# EAGLE library part ICE40HX1K (library iCE40HX-1k)
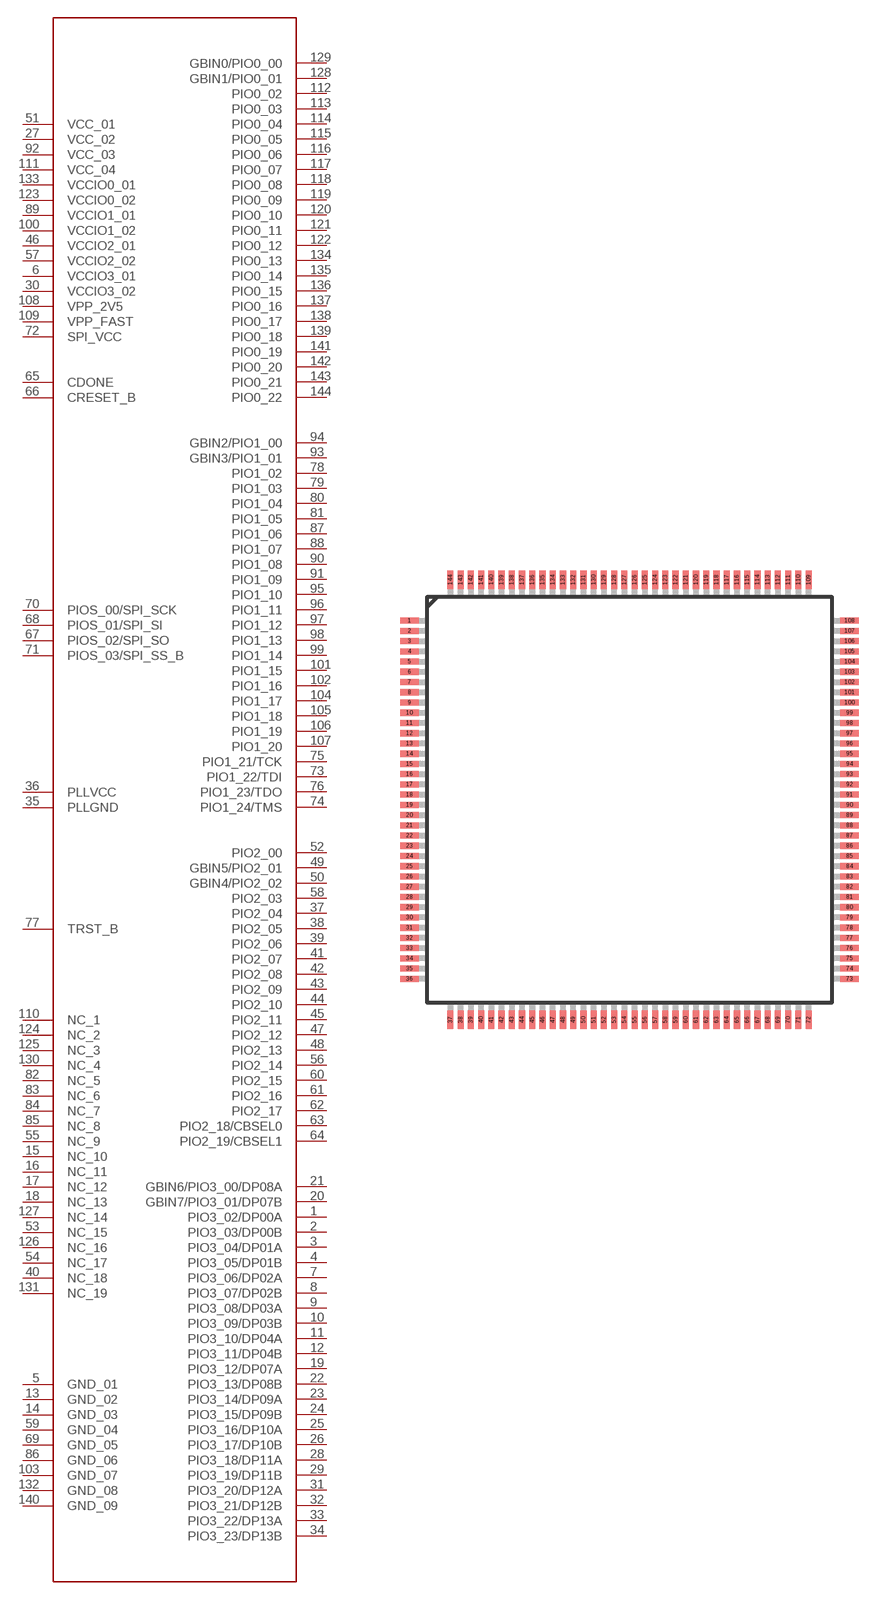
[diagram p0: symbol with the pads of TQFP144; footprint TQFP144]

Designator prefix -

## ICE40HX1K  [TQFP144]
1  PIO3_02/DP00A
2  PIO3_03/DP00B
3  PIO3_04/DP01A
4  PIO3_05/DP01B
5  GND_01  pwr
6  VCCIO3_01  pwr
7  PIO3_06/DP02A
8  PIO3_07/DP02B
9  PIO3_08/DP03A
10  PIO3_09/DP03B
11  PIO3_10/DP04A
12  PIO3_11/DP04B
13  GND_02  pwr
14  GND_03  pwr
15  NC_10  nc
16  NC_11  nc
17  NC_12  nc
18  NC_13  nc
19  PIO3_12/DP07A
20  GBIN7/PIO3_01/DP07B
21  GBIN6/PIO3_00/DP08A
22  PIO3_13/DP08B
23  PIO3_14/DP09A
24  PIO3_15/DP09B
25  PIO3_16/DP10A
26  PIO3_17/DP10B
27  VCC_02  pwr
28  PIO3_18/DP11A
29  PIO3_19/DP11B
30  VCCIO3_02  pwr
31  PIO3_20/DP12A
32  PIO3_21/DP12B
33  PIO3_22/DP13A
34  PIO3_23/DP13B
35  PLLGND  pwr
36  PLLVCC  pwr
37  PIO2_04
38  PIO2_05
39  PIO2_06
40  NC_18  nc
41  PIO2_07
42  PIO2_08
43  PIO2_09
44  PIO2_10
45  PIO2_11
46  VCCIO2_01  pwr
47  PIO2_12
48  PIO2_13
49  GBIN5/PIO2_01
50  GBIN4/PIO2_02
51  VCC_01  pwr
52  PIO2_00
53  NC_15  nc
54  NC_17  nc
55  NC_9  nc
56  PIO2_14
57  VCCIO2_02  pwr
58  PIO2_03
59  GND_04  pwr
60  PIO2_15
61  PIO2_16
62  PIO2_17
63  PIO2_18/CBSEL0
64  PIO2_19/CBSEL1
65  CDONE  out
66  CRESET_B  in
67  PIOS_02/SPI_SO
68  PIOS_01/SPI_SI
69  GND_05  pwr
70  PIOS_00/SPI_SCK
71  PIOS_03/SPI_SS_B
72  SPI_VCC
73  PIO1_22/TDI
74  PIO1_24/TMS
75  PIO1_21/TCK
76  PIO1_23/TDO
77  TRST_B  pas
78  PIO1_02
79  PIO1_03
80  PIO1_04
81  PIO1_05
82  NC_5  nc
83  NC_6  nc
84  NC_7  nc
85  NC_8  nc
86  GND_06  pwr
87  PIO1_06
88  PIO1_07
89  VCCIO1_01  pwr
90  PIO1_08
91  PIO1_09
92  VCC_03  pwr
93  GBIN3/PIO1_01
94  GBIN2/PIO1_00
95  PIO1_10
96  PIO1_11
97  PIO1_12
98  PIO1_13
99  PIO1_14
100  VCCIO1_02  pwr
101  PIO1_15
102  PIO1_16
103  GND_07  pwr
104  PIO1_17
105  PIO1_18
106  PIO1_19
107  PIO1_20
108  VPP_2V5  pwr
109  VPP_FAST  pwr
110  NC_1  nc
111  VCC_04  pwr
112  PIO0_02
113  PIO0_03
114  PIO0_04
115  PIO0_05
116  PIO0_06
117  PIO0_07
118  PIO0_08
119  PIO0_09
120  PIO0_10
121  PIO0_11
122  PIO0_12
123  VCCIO0_02  pwr
124  NC_2  nc
125  NC_3  nc
126  NC_16  nc
127  NC_14  nc
128  GBIN1/PIO0_01
129  GBIN0/PIO0_00
130  NC_4  nc
131  NC_19  nc
132  GND_08  pwr
133  VCCIO0_01  pwr
134  PIO0_13
135  PIO0_14
136  PIO0_15
137  PIO0_16
138  PIO0_17
139  PIO0_18
140  GND_09  pwr
141  PIO0_19
142  PIO0_20
143  PIO0_21
144  PIO0_22

## Footprint TQFP144 (pad centres in mm)
TQFP 144 Auto generated by make-symbol-device-package-bsdl.ulp Rev. 20 Source: http://www.latticesemi.com/lit/docs/package/pkg.pdf
smd 0.9 x 0.3: 1 -10.75,8.75; 2 -10.75,8.25; 3 -10.75,7.75; 4 -10.75,7.25; 5 -10.75,6.75; 6 -10.75,6.25; 7 -10.75,5.75; 8 -10.75,5.25; 9 -10.75,4.75; 10 -10.75,4.25; 11 -10.75,3.75; 12 -10.75,3.25; 13 -10.75,2.75; 14 -10.75,2.25; 15 -10.75,1.75; 16 -10.75,1.25; 17 -10.75,0.75; 18 -10.75,0.25; 19 -10.75,-0.25; 20 -10.75,-0.75; 21 -10.75,-1.25; 22 -10.75,-1.75; 23 -10.75,-2.25; 24 -10.75,-2.75; 25 -10.75,-3.25; 26 -10.75,-3.75; 27 -10.75,-4.25; 28 -10.75,-4.75; 29 -10.75,-5.25; 30 -10.75,-5.75; 31 -10.75,-6.25; 32 -10.75,-6.75; 33 -10.75,-7.25; 34 -10.75,-7.75; 35 -10.75,-8.25; 36 -10.75,-8.75; 73 10.75,-8.75; 74 10.75,-8.25; 75 10.75,-7.75; 76 10.75,-7.25; 77 10.75,-6.75; 78 10.75,-6.25; 79 10.75,-5.75; 80 10.75,-5.25; 81 10.75,-4.75; 82 10.75,-4.25; 83 10.75,-3.75; 84 10.75,-3.25; 85 10.75,-2.75; 86 10.75,-2.25; 87 10.75,-1.75; 88 10.75,-1.25; 89 10.75,-0.75; 90 10.75,-0.25; 91 10.75,0.25; 92 10.75,0.75; 93 10.75,1.25; 94 10.75,1.75; 95 10.75,2.25; 96 10.75,2.75; 97 10.75,3.25; 98 10.75,3.75; 99 10.75,4.25; 100 10.75,4.75; 101 10.75,5.25; 102 10.75,5.75; 103 10.75,6.25; 104 10.75,6.75; 105 10.75,7.25; 106 10.75,7.75; 107 10.75,8.25; 108 10.75,8.75
smd 0.3 x 0.9: 37 -8.75,-10.75; 38 -8.25,-10.75; 39 -7.75,-10.75; 40 -7.25,-10.75; 41 -6.75,-10.75; 42 -6.25,-10.75; 43 -5.75,-10.75; 44 -5.25,-10.75; 45 -4.75,-10.75; 46 -4.25,-10.75; 47 -3.75,-10.75; 48 -3.25,-10.75; 49 -2.75,-10.75; 50 -2.25,-10.75; 51 -1.75,-10.75; 52 -1.25,-10.75; 53 -0.75,-10.75; 54 -0.25,-10.75; 55 0.25,-10.75; 56 0.75,-10.75; 57 1.25,-10.75; 58 1.75,-10.75; 59 2.25,-10.75; 60 2.75,-10.75; 61 3.25,-10.75; 62 3.75,-10.75; 63 4.25,-10.75; 64 4.75,-10.75; 65 5.25,-10.75; 66 5.75,-10.75; 67 6.25,-10.75; 68 6.75,-10.75; 69 7.25,-10.75; 70 7.75,-10.75; 71 8.25,-10.75; 72 8.75,-10.75; 109 8.75,10.75; 110 8.25,10.75; 111 7.75,10.75; 112 7.25,10.75; 113 6.75,10.75; 114 6.25,10.75; 115 5.75,10.75; 116 5.25,10.75; 117 4.75,10.75; 118 4.25,10.75; 119 3.75,10.75; 120 3.25,10.75; 121 2.75,10.75; 122 2.25,10.75; 123 1.75,10.75; 124 1.25,10.75; 125 0.75,10.75; 126 0.25,10.75; 127 -0.25,10.75; 128 -0.75,10.75; 129 -1.25,10.75; 130 -1.75,10.75; 131 -2.25,10.75; 132 -2.75,10.75; 133 -3.25,10.75; 134 -3.75,10.75; 135 -4.25,10.75; 136 -4.75,10.75; 137 -5.25,10.75; 138 -5.75,10.75; 139 -6.25,10.75; 140 -6.75,10.75; 141 -7.25,10.75; 142 -7.75,10.75; 143 -8.25,10.75; 144 -8.75,10.75